# Altium footprint library LaserDiode_Driver.PcbLib: 56 footprints (part 4 of 4)
Each footprint in its own frame and in the unit in brackets; x right, y up, seen from the top. Pads: shape width x height; smd on the part's side, far side on the other; paste and mask are expansions set on the pad; w line width, h text height; cw(c..) or ccw(c..) is an arc to the next point about the centre after c.
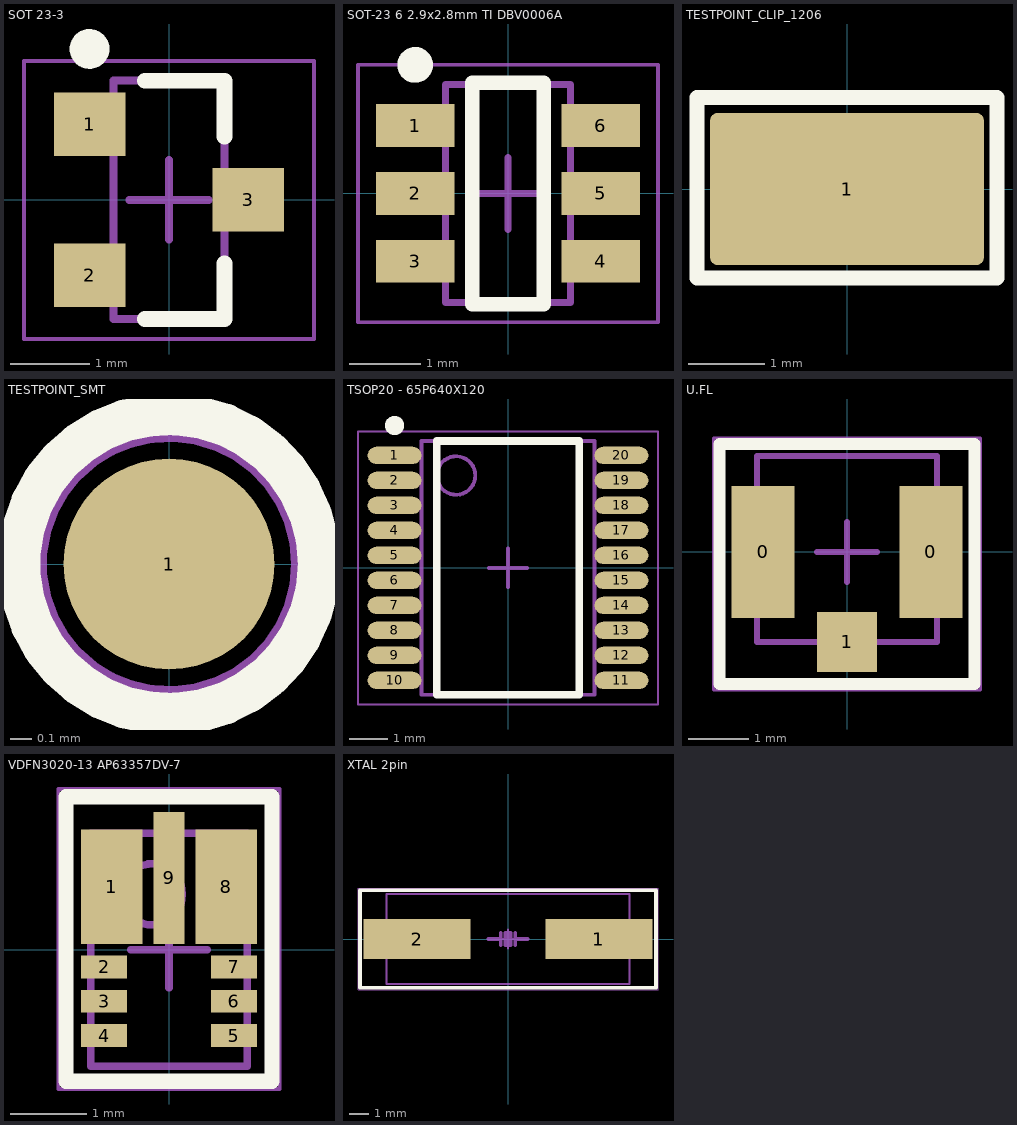
[diagram p3: the footprints below, top view; thin cyan lines are the x and y axes]

## SOT 23-3 [mm]
height 1.15
pads (3):
  rect 0.9x0.8 smd: 1(-1,0.95) 2(-1,-0.95) 3(1,0)
Top Overlay:
  circle w0.25: c-1,1.9 r0.125
  lines w0.2: -0.3,-1.5 0.7,-1.5 0.7,-0.8 ; -0.3,1.5 0.7,1.5 0.7,0.8
Mechanical 13:
  lines w0.1: -0.7,-1.5 0.7,-1.5 0.7,1.5 -0.7,1.5 -0.7,-1.5
Mechanical 15:
  lines w0.05: -1.825,-1.75 1.825,-1.75 1.825,1.75 -1.825,1.75 -1.825,-1.75
  lines w0.1: -0.5,0 0.5,0 ; 0,-0.5 0,0.5
3D body "SOT 23-3 .step": height 1.15, standoff 0, extent -1.2,-1.5 1.2,1.5

## SOT-23 6 2.9x2.8mm TI DBV0006A [mm] "SOT23, 6-Leads, Body 2.90x2.80mm, Pitch 0.95mm, IPC Medium Density"
height 1.45
pads (6):
  rect 1.1x0.6 smd: 1(-1.3,0.95) 2(-1.3,0) 3(-1.3,-0.95) 4(1.3,-0.95) 5(1.3,0) 6(1.3,0.95)
Top Overlay:
  circle w0.25: c-1.3,1.8 r0.125
  lines w0.2: -0.5,-1.55 -0.5,1.55 0.5,1.55 0.5,-1.55 -0.5,-1.55
Mechanical 13:
  lines w0.1: -0.875,-1.525 0.875,-1.525 0.875,1.525 -0.875,1.525 -0.875,-1.525
Mechanical 15:
  lines w0.05: -2.1,-1.8 2.1,-1.8 2.1,1.8 -2.1,1.8 -2.1,-1.8
  lines w0.1: -0.5,0 0.5,0 ; 0,-0.5 0,0.5
3D body "SOT-23 6 2.9x2.8mm TI DBV0006A.step": height 1.45, standoff 0, extent -1.5,-1.525 1.5,1.525

## TESTPOINT_CLIP_1206 [mm]
pads (1):
  rrect10% 3.6x2 smd paste-1111: 1(0,0)
Top Overlay:
  lines w0.2: -1.971,-1.171 -1.971,1.201 1.971,1.201 1.971,-1.171 -1.971,-1.171
Mechanical 13:
  circle w0.05: c0,0 r0.604
3D body "RCWCTE--3DModel-STEP-56544.STEP": height 2.01, standoff 0, extent -1.6,-0.8 1.6,0.8

## TESTPOINT_SMT [mm] "testpoint smt"
pads (1):
  round 1 smd paste-1111: 1(0,0)
Top Overlay:
  circle w0.2: c0,0 r0.71
Mechanical 13:
  circle w0.05: c0,0 r0.604

## TSOP20 - 65P640X120 [mm] "TSOP, 20-Leads, Body 6.50x4.40mm, Pitch 0.65mm, IPC Medium Density"
height 1.2
pads (20):
  oval 1.4x0.45 smd: 1(-2.95,2.925) 2(-2.95,2.275) 3(-2.95,1.625) 4(-2.95,0.975) 5(-2.95,0.325) 6(-2.95,-0.325) 7(-2.95,-0.975) 8(-2.95,-1.625) 9(-2.95,-2.275) 10(-2.95,-2.925) 11(2.95,-2.925) 12(2.95,-2.275) 13(2.95,-1.625) 14(2.95,-0.975) 15(2.95,-0.325) 16(2.95,0.325) 17(2.95,0.975) 18(2.95,1.625) 19(2.95,2.275) 20(2.95,2.925)
Top Overlay:
  circle w0.25: c-2.95,3.7 r0.125
  lines w0.2: -1.85,-3.3 -1.85,3.3 1.85,3.3 1.85,-3.3 -1.85,-3.3
Mechanical 13:
  circle w0.1: c-1.35,2.4 r0.5
  lines w0.1: -2.25,-3.3 -2.25,3.3 2.25,3.3 2.25,-3.3 -2.25,-3.3
Mechanical 15:
  lines w0.05: -3.9,-3.55 -3.9,3.55 3.9,3.55 3.9,-3.55 -3.9,-3.55
  lines w0.1: -0.5,0 0.5,0 ; 0,-0.5 0,0.5
3D body "TSOP20 - 65P640X120.step": height 1.2, standoff 0, extent -3.2,-3.3 3.2,3.3

## U.FL [mm] "SOT23, 6-Leads, Body 2.90x2.80mm, Pitch 0.95mm, IPC Low Density"
height 1.45
pads (3):
  rect 1.05x2.2 smd: 0(-1.4,0) 0(1.4,0)
  rect 1x1 smd: 1(0,-1.5)
Top Overlay:
  lines w0.2: -2.125,-2.2 2.125,-2.2 2.125,1.8 -2.125,1.8 -2.125,-2.2
Top Assembly:
  lines w0.1: -1.5,-1.5 -1.5,1.6 1.5,1.6 1.5,-1.5 -1.5,-1.5
Top Courtyard:
  lines w0.05: -2.225,-2.3 -2.225,1.9 2.225,1.9 2.225,-2.3 -2.225,-2.3
  lines w0.1: -0.5,0 0.5,0 ; 0,-0.5 0,0.5
3D body "U.FL-R-SMT-1.stp": height 1.26, standoff 0.01, extent -1.5,-1.5 1.5,1.6

## VDFN3020-13 AP63357DV-7 [mm] "SON, 12-Leads, Body 3.00x2.00mm, Pitch 0.45mm, IPC Medium Density"
height 0.85
pads (9):
  rect 0.8x1.5 smd: 1(-0.75,0.825) 8(0.75,0.825)
  rect 0.6x0.3 smd: 2(-0.85,-0.225) 3(-0.85,-0.675) 4(-0.85,-1.125) 5(0.85,-1.125) 6(0.85,-0.675) 7(0.85,-0.225)
  rect 0.4x1.73 smd: 9(0,0.94)
Top Overlay:
  lines w0.2: -1.35,-1.725 -1.35,2.005 1.35,2.005 1.35,-1.725 -1.35,-1.725
Mechanical 13:
  circle w0.1: c-0.225,0.725 r0.4
  lines w0.1: -1.025,-1.525 1.025,-1.525 1.025,1.525 -1.025,1.525 -1.025,-1.525
Mechanical 15:
  lines w0.05: -1.45,-1.825 1.45,-1.825 1.45,2.105 -1.45,2.105 -1.45,-1.825
  lines w0.1: -0.5,0 0.5,0 ; 0,-0.5 0,0.5
3D body "VDFN3020-13 AP63357DV-7.step": height 0.85, standoff 0, extent -1.026,-1.525 1.026,1.525

## XTAL 2pin [mm]
pads (2):
  rect 5.6x2.1 smd: 1(4.75,0) 2(-4.75,0)
Top Overlay:
  lines w0.2: -7.75,-2.549 -7.75,2.549 7.75,2.549 7.75,-2.549 -7.75,-2.549
Mechanical 1:
  lines w0.2: -1.016,0 -0.381,0 ; -0.381,-0.318 -0.381,0.318 ; 0.381,-0.318 0.381,0.318 ; 0.381,0 1.016,0 ; -0.127,-0.318 0.127,-0.318 0.127,0.318 -0.127,0.318 -0.127,-0.318
Mechanical 13:
  lines w0.1: -6.35,-2.349 -6.35,2.349 6.35,2.349 6.35,-2.349 -6.35,-2.349
Mechanical 15:
  lines w0.05: -7.85,-2.649 -7.85,2.649 7.85,2.649 7.85,-2.649 -7.85,-2.649
  lines w0.1: -0.5,0 0.5,0 ; 0,-0.5 0,0.5
3D body "ABLS.STEP": height 4.18, standoff 0.01, extent -6.35,-2.349 6.35,2.349